# EAGLE library part ATTINY85-20MUR (library ATTINY85-20MUR)
AVR AVR® ATtiny Microcontroller IC 8-Bit 20MHz 8KB (4K x 16) FLASH 20-QFN-EP (4x4) Check prices <https://pricing.snapeda.com/parts/ATTINY85-20MUR/Microchip%20Technology/view-part?ref=eda>
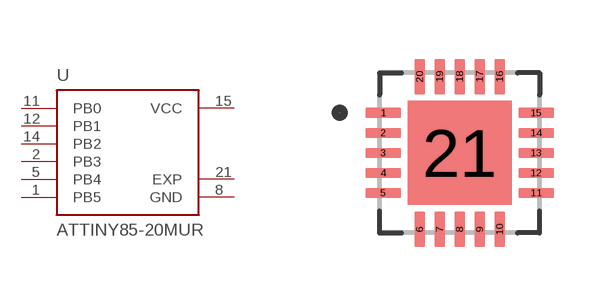
[diagram p0: symbol with the pads of QFN50P400X400X80-21N; footprint QFN50P400X400X80-21N]

Designator prefix U

## ATTINY85-20MUR (AVAILABILITY: Good; DESCRIPTION: AVR AVR® ATtiny, Functional Safety (FuSa) Microcontroller IC 8-Bit 20MHz 8KB (4K x 16) FLASH 20-QFN-EP (4x4); MF: Microchip Technology; MP: ATTINY85-20MUR; PACKAGE: QFN-20 Microchip; PRICE: None; PURCHASE-URL: https://pricing.snapeda.com/search/part/ATTINY85-20MUR/?ref=eda)  [QFN50P400X400X80-21N]
1  PB5
2  PB3
5  PB4
8  GND  pwr
11  PB0
12  PB1
14  PB2
15  VCC  pwr
21  EXP  pwr

## Footprint QFN50P400X400X80-21N (pad centres in mm)
smd 0.89 x 0.26: 1 -1.91,1; 2 -1.91,0.5; 3 -1.91,0; 4 -1.91,-0.5; 5 -1.91,-1; 11 1.91,-1; 12 1.91,-0.5; 13 1.91,0; 14 1.91,0.5; 15 1.91,1
smd 0.26 x 0.89: 6 -1,-1.91; 7 -0.5,-1.91; 8 0,-1.91; 9 0.5,-1.91; 10 1,-1.91; 16 1,1.91; 17 0.5,1.91; 18 0,1.91; 19 -0.5,1.91; 20 -1,1.91
smd 2.6 x 2.6: 21 0,0